# EAGLE library part CAP-BALANCING-FET-ARRAY (library 2018)
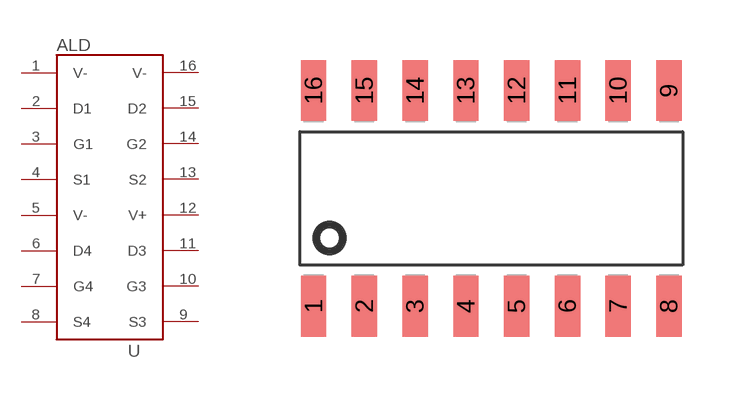
[diagram p2: symbol with the pads of SOIC16; footprint SOIC16]

Designator prefix -

## CAP-BALANCING-FET-ARRAYALD  [SOIC16]
1  V-
2  D1
3  G1
4  S1
5  V-
6  D4
7  G4
8  S4
9  S3
10  G3
11  D3
12  V+
13  S2
14  G2
15  D2
16  V-

## Footprint SOIC16 (pad centres in mm)
SMALL OUTLINE INTEGRATED CIRCUIT 16-Pin (150-Mil) SOIC Source: http://www.cypress.com .. 38-12025_0P_V.pdf
smd 0.635 x 1.524: 1 -4.445,-2.695; 2 -3.175,-2.695; 3 -1.905,-2.695; 4 -0.635,-2.695; 5 0.635,-2.695; 6 1.905,-2.695; 7 3.175,-2.695; 8 4.445,-2.695; 9 4.445,2.695; 10 3.175,2.695; 11 1.905,2.695; 12 0.635,2.695; 13 -0.635,2.695; 14 -1.905,2.695; 15 -3.175,2.695; 16 -4.445,2.695